# Altium schematic symbol library TLNT227M010R1300.SchLib: 1 symbol
Pins are listed as number, name and electrical type; pins without a type are passive.

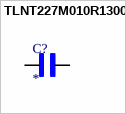
[diagram p0: symbol TLNT227M010R1300]

## TLNT227M010R1300
designator C?
220 ÂµF Molded Tantalum Capacitors 10 V 1411 (3528 Metric), 1210 1.3Ohm; MF: AVX; MP: TLNT227M010R1300; SnapEDA_Link: https://www.snapeda.com/parts/TLNT227M010R1300/AVX/view-part/?ref=snap; Package: 1210 AVX; Value: *; Check_prices: https://www.snapeda.com/parts/TLNT227M010R1300/AVX/view-part/?ref=eda
footprint CAPPC3528X210N
pins: 1, 2